# EAGLE library part ATMEGA32M1 (library balto)
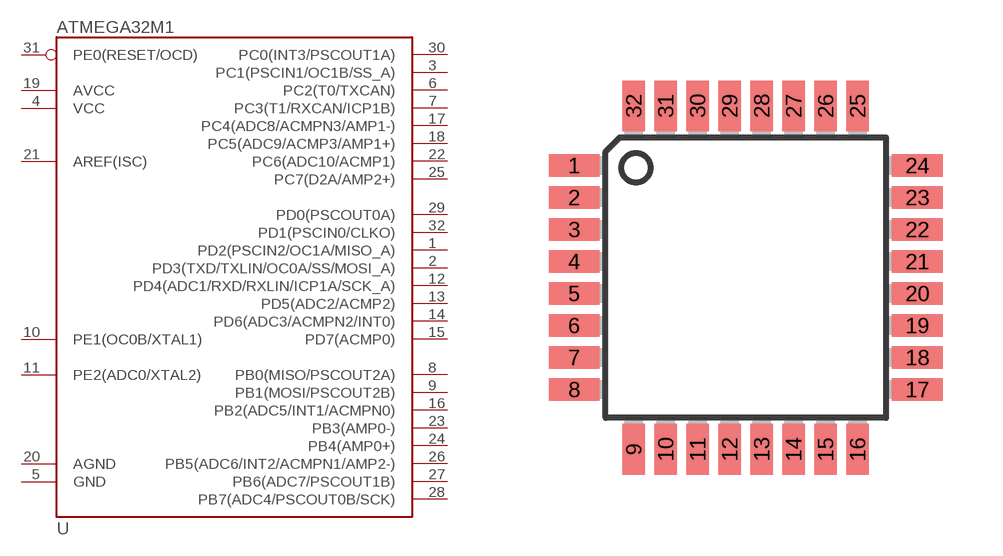
[diagram p9: symbol with the pads of TQFP32-08; footprint TQFP32-08]

Designator prefix U

## ATMEGA32M1  [TQFP32-08]
1  PD2(PSCIN2/OC1A/MISO_A)
2  PD3(TXD/TXLIN/OC0A/SS/MOSI_A)
3  PC1(PSCIN1/OC1B/SS_A)
4  VCC
5  GND
6  PC2(T0/TXCAN)
7  PC3(T1/RXCAN/ICP1B)
8  PB0(MISO/PSCOUT2A)
9  PB1(MOSI/PSCOUT2B)
10  PE1(OC0B/XTAL1)
11  PE2(ADC0/XTAL2)
12  PD4(ADC1/RXD/RXLIN/ICP1A/SCK_A)
13  PD5(ADC2/ACMP2)
14  PD6(ADC3/ACMPN2/INT0)
15  PD7(ACMP0)
16  PB2(ADC5/INT1/ACMPN0)
17  PC4(ADC8/ACMPN3/AMP1-)
18  PC5(ADC9/ACMP3/AMP1+)
19  AVCC
20  AGND
21  AREF(ISC)
22  PC6(ADC10/ACMP1)
23  PB3(AMP0-)
24  PB4(AMP0+)
25  PC7(D2A/AMP2+)
26  PB5(ADC6/INT2/ACMPN1/AMP2-)
27  PB6(ADC7/PSCOUT1B)
28  PB7(ADC4/PSCOUT0B/SCK)
29  PD0(PSCOUT0A)
30  PC0(INT3/PSCOUT1A)
31  PE0(RESET/OCD)
32  PD1(PSCIN0/CLKO)

## Footprint TQFP32-08 (pad centres in mm)
Thin Plasic Quad Flat Package Grid 0.8 mm
smd 1.27 x 0.559: 1 -4.293,2.8; 2 -4.293,2; 3 -4.293,1.2; 4 -4.293,0.4; 5 -4.293,-0.4; 6 -4.293,-1.2; 7 -4.293,-2; 8 -4.293,-2.8; 17 4.293,-2.8; 18 4.293,-2; 19 4.293,-1.2; 20 4.293,-0.4; 21 4.293,0.4; 22 4.293,1.2; 23 4.293,2; 24 4.293,2.8
smd 0.559 x 1.27: 9 -2.8,-4.293; 10 -2,-4.293; 11 -1.2,-4.293; 12 -0.4,-4.293; 13 0.4,-4.293; 14 1.2,-4.293; 15 2,-4.293; 16 2.8,-4.293; 25 2.8,4.293; 26 2,4.293; 27 1.2,4.293; 28 0.4,4.293; 29 -0.4,4.293; 30 -1.2,4.293; 31 -2,4.293; 32 -2.8,4.293